# EAGLE library part PIC32MX250F128B_SOCKET (library me433)
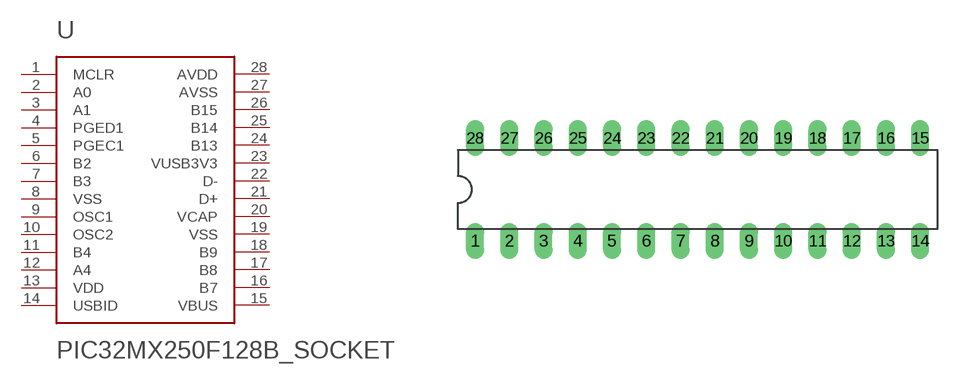
[diagram p0: symbol with the pads of DIP28; footprint DIP28]

Designator prefix -

## PIC32MX250F128B_SOCKET  [DIP28]
1  MCLR
2  A0
3  A1
4  PGED1
5  PGEC1
6  B2
7  B3
8  VSS
9  OSC1
10  OSC2
11  B4
12  A4
13  VDD
14  USBID
15  VBUS
16  B7
17  B8
18  B9
19  VSS
20  VCAP
21  D+
22  D-
23  VUSB3V3
24  B13
25  B14
26  B15
27  AVSS
28  AVDD

## Footprint DIP28 (pad centres in mm)
drill 0.813 long: 1 -17.78,-3.81; 2 -15.24,-3.81; 3 -12.7,-3.81; 4 -10.16,-3.81; 5 -7.62,-3.81; 6 -5.08,-3.81; 7 -2.54,-3.81; 8 0,-3.81; 9 2.54,-3.81; 10 5.08,-3.81; 11 7.62,-3.81; 12 10.16,-3.81; 13 12.7,-3.81; 14 15.24,-3.81; 15 15.24,3.81; 16 12.7,3.81; 17 10.16,3.81; 18 7.62,3.81; 19 5.08,3.81; 20 2.54,3.81; 21 0,3.81; 22 -2.54,3.81; 23 -5.08,3.81; 24 -7.62,3.81; 25 -10.16,3.81; 26 -12.7,3.81; 27 -15.24,3.81; 28 -17.78,3.81